# Altium schematic symbol library Components - 22.04.20 - 04.56.SchLib: 1 symbol
Pins are listed as number, name and electrical type; pins without a type are passive.

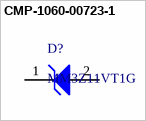
[diagram p0: symbol CMP-1060-00723-1]

## CMP-1060-00723-1
designator D?, comment MM3Z11VT1G
Zener Voltage Regulator, 300 mW, 2-Pin SOD-323, Pb-Free, Tape and Reel; Manufacturer: On Semiconductor; P Max (W): 0.3; VZ Typ (V): 11; ComponentLink2URL: http://www.onsemi.cn/pub_link/Collateral/MM3Z2V4T1-D.PDF; Mounting Technology: Surface Mount; ComponentLink1URL: http://www.onsemi.com/; PackageDescription: 2-Pin SOD, Body 1.7 x 1.25 mm; PartNumber: MM3Z11VT1G; RoHS: Pb-Free; Packing: Tape and Reel; ComponentLink3URL: http://www.onsemi.com/pub_link/Collateral/477-02.PDF.1; ComponentLink1Description: Manufacturer URL; ComponentLink2Description: Datasheet; PackageVersion: Rev. H, 03/2007; ComponentLink3Description: Package Specification; DatasheetVersion: Rev. 9; PackageReference: SOD-323-2-477-02
footprint ONSC-SOD-323-2-477-02_V (SOD, 2-Leads, Body 1.7x1.25mm)
pins: 1 K, 2 A